# EAGLE library part DRV8301 (library motor-drivers)
TI DR8301 : Three Phase Pre-Driver with Dual Current Shunt Amplifiers and Buck Regulator
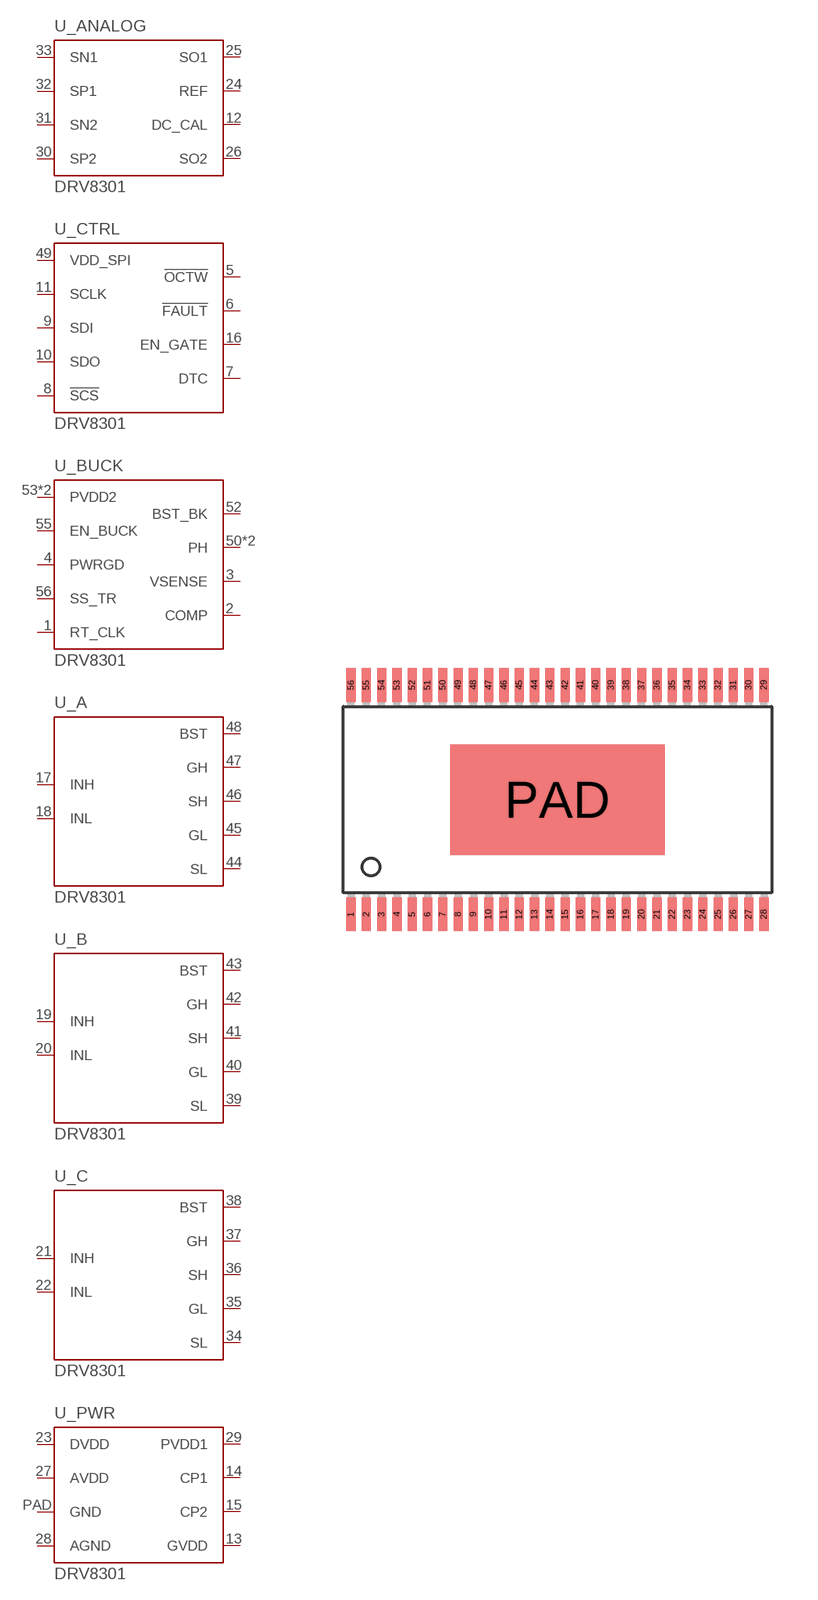
[diagram p5: symbol with the pads of HTSSOP56DCA; footprint HTSSOP56DCA]

Designator prefix U; gates _BUCK=DRV8301_BUCK _A=DRV8301_GATE _B=DRV8301_GATE _C=DRV8301_GATE _CTRL=DRV8301_CTRL _ANALOG=DRV8301_ANALOG _PWR=DRV8301_PWR

## DRV8301 (MF: Texas Instruments; MPN: DRV8301DCA; REVIEWED: NO; TESTED: NO)  [HTSSOP56DCA]
1  _BUCK:RT_CLK  pas
2  _BUCK:COMP  pas
3  _BUCK:VSENSE  in
4  _BUCK:PWRGD  oc
5  _CTRL:!OCTW  pas
6  _CTRL:!FAULT  pas
7  _CTRL:DTC  pas
8  _CTRL:!SCS  in
9  _CTRL:SDI  in
10  _CTRL:SDO  out
11  _CTRL:SCLK  in
12  _ANALOG:DC_CAL  in
13  _PWR:GVDD  pas
14  _PWR:CP1  pas
15  _PWR:CP2  pas
16  _CTRL:EN_GATE  in
17  _A:INH  in
18  _A:INL  in
19  _B:INH  in
20  _B:INL  in
21  _C:INH  in
22  _C:INL  in
23  _PWR:DVDD  pas
24  _ANALOG:REF  in
25  _ANALOG:SO1  out
26  _ANALOG:SO2  out
27  _PWR:AVDD  pas
28  _PWR:AGND  pwr
29  _PWR:PVDD1  in
30  _ANALOG:SP2  in
31  _ANALOG:SN2  in
32  _ANALOG:SP1  in
33  _ANALOG:SN1  in
34  _C:SL  in
35  _C:GL  out
36  _C:SH  in
37  _C:GH  out
38  _C:BST  pas
39  _B:SL  in
40  _B:GL  out
41  _B:SH  in
42  _B:GH  out
43  _B:BST  pas
44  _A:SL  in
45  _A:GL  out
46  _A:SH  in
47  _A:GH  out
48  _A:BST  pas
49  _CTRL:VDD_SPI  in
50  _BUCK:PH  out
51  _BUCK:PH  out
52  _BUCK:BST_BK  pas
53  _BUCK:PVDD2  in
54  _BUCK:PVDD2  in
55  _BUCK:EN_BUCK  in
56  _BUCK:SS_TR  pas
PAD  _PWR:GND  pwr

## Footprint HTSSOP56DCA (pad centres in mm)
PowerPAD(TM) PLASTIC SMALL-OUTLINE PACKAGE DCA (R-PDSO-G**) Source: http://focus.ti.com/lit/ml/mpds044/mpds044.pdf / slma002.pdf NOTE Footprint design was taken from Eagle TI library. TI datasheet for DRV8301 does not provide reference footprint.
smd 0.3 x 1.1: 1 -6.75,-3.75; 2 -6.25,-3.75; 3 -5.75,-3.75; 4 -5.25,-3.75; 5 -4.75,-3.75; 6 -4.25,-3.75; 7 -3.75,-3.75; 8 -3.25,-3.75; 9 -2.75,-3.75; 10 -2.25,-3.75; 11 -1.75,-3.75; 12 -1.25,-3.75; 13 -0.75,-3.75; 14 -0.25,-3.75; 15 0.25,-3.75; 16 0.75,-3.75; 17 1.25,-3.75; 18 1.75,-3.75; 19 2.25,-3.75; 20 2.75,-3.75; 21 3.25,-3.75; 22 3.75,-3.75; 23 4.25,-3.75; 24 4.75,-3.75; 25 5.25,-3.75; 26 5.75,-3.75; 27 6.25,-3.75; 28 6.75,-3.75; 29 6.75,3.75; 30 6.25,3.75; 31 5.75,3.75; 32 5.25,3.75; 33 4.75,3.75; 34 4.25,3.75; 35 3.75,3.75; 36 3.25,3.75; 37 2.75,3.75; 38 2.25,3.75; 39 1.75,3.75; 40 1.25,3.75; 41 0.75,3.75; 42 0.25,3.75; 43 -0.25,3.75; 44 -0.75,3.75; 45 -1.25,3.75; 46 -1.75,3.75; 47 -2.25,3.75; 48 -2.75,3.75; 49 -3.25,3.75; 50 -3.75,3.75; 51 -4.25,3.75; 52 -4.75,3.75; 53 -5.25,3.75; 54 -5.75,3.75; 55 -6.25,3.75; 56 -6.75,3.75
smd 7 x 3.61: PAD 0,0